# EAGLE library part XBEE (library MyLib)
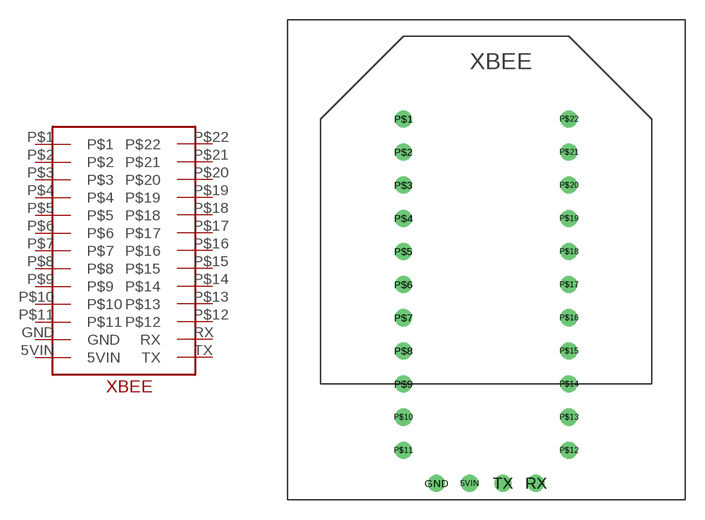
[diagram p5: symbol with the pads of XBEE; footprint XBEE]

Designator prefix -

## XBEE  [XBEE]
5VIN  5VIN
GND  GND
P$1  P$1
P$2  P$2
P$3  P$3
P$4  P$4
P$5  P$5
P$6  P$6
P$7  P$7
P$8  P$8
P$9  P$9
P$10  P$10
P$11  P$11
P$12  P$12
P$13  P$13
P$14  P$14
P$15  P$15
P$16  P$16
P$17  P$17
P$18  P$18
P$19  P$19
P$20  P$20
P$21  P$21
P$22  P$22
RX  RX
TX  TX

## Footprint XBEE (pad centres in mm)
drill 0.8: 5VIN -1.27,-15.24; GND -3.81,-15.24; P$1 -6.35,12.7; P$2 -6.35,10.16; P$3 -6.35,7.62; P$4 -6.35,5.08; P$5 -6.35,2.54; P$6 -6.35,0; P$7 -6.35,-2.54; P$8 -6.35,-5.08; P$9 -6.35,-7.62; P$10 -6.35,-10.16; P$11 -6.35,-12.7; P$12 6.35,-12.7; P$13 6.35,-10.16; P$14 6.35,-7.62; P$15 6.35,-5.08; P$16 6.35,-2.54; P$17 6.35,0; P$18 6.35,2.54; P$19 6.35,5.08; P$20 6.35,7.62; P$21 6.35,10.16; P$22 6.35,12.7; RX 3.81,-15.24; TX 1.27,-15.24